# EAGLE library part TRIPLE_PANEL_LED (library LEDs)
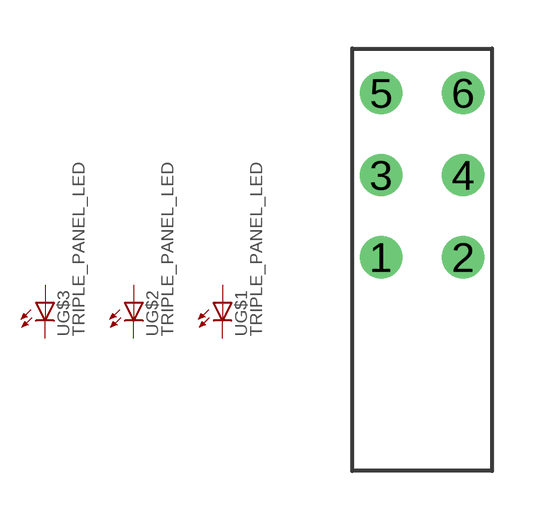
[diagram p1: symbol with the pads of RIGHT_ANGLE_3_LEDS_DEEP; footprint RIGHT_ANGLE_3_LEDS_DEEP]

Designator prefix -; gates G$1=LED G$2=LED G$3=LED

## TRIPLE_PANEL_LED  [RIGHT_ANGLE_3_LEDS_DEEP]
1  G$1:A  pas
2  G$1:C  pas
3  G$2:A  pas
4  G$2:C  pas
5  G$3:A  pas
6  G$3:C  pas

## Footprint RIGHT_ANGLE_3_LEDS_DEEP (pad centres in mm)
drill 0.8: 1 -1.27,0; 2 1.27,0; 3 -1.27,2.54; 4 1.27,2.54; 5 -1.27,5.08; 6 1.27,5.08